# Altium footprint library UCDFR Passives.PcbLib: 35 footprints (part 2 of 3)
Each footprint in its own frame and in the unit in brackets; x right, y up, seen from the top. Pads: shape width x height; smd on the part's side, far side on the other; paste and mask are expansions set on the pad; w line width, h text height; cw(c..) or ccw(c..) is an arc to the next point about the centre after c.
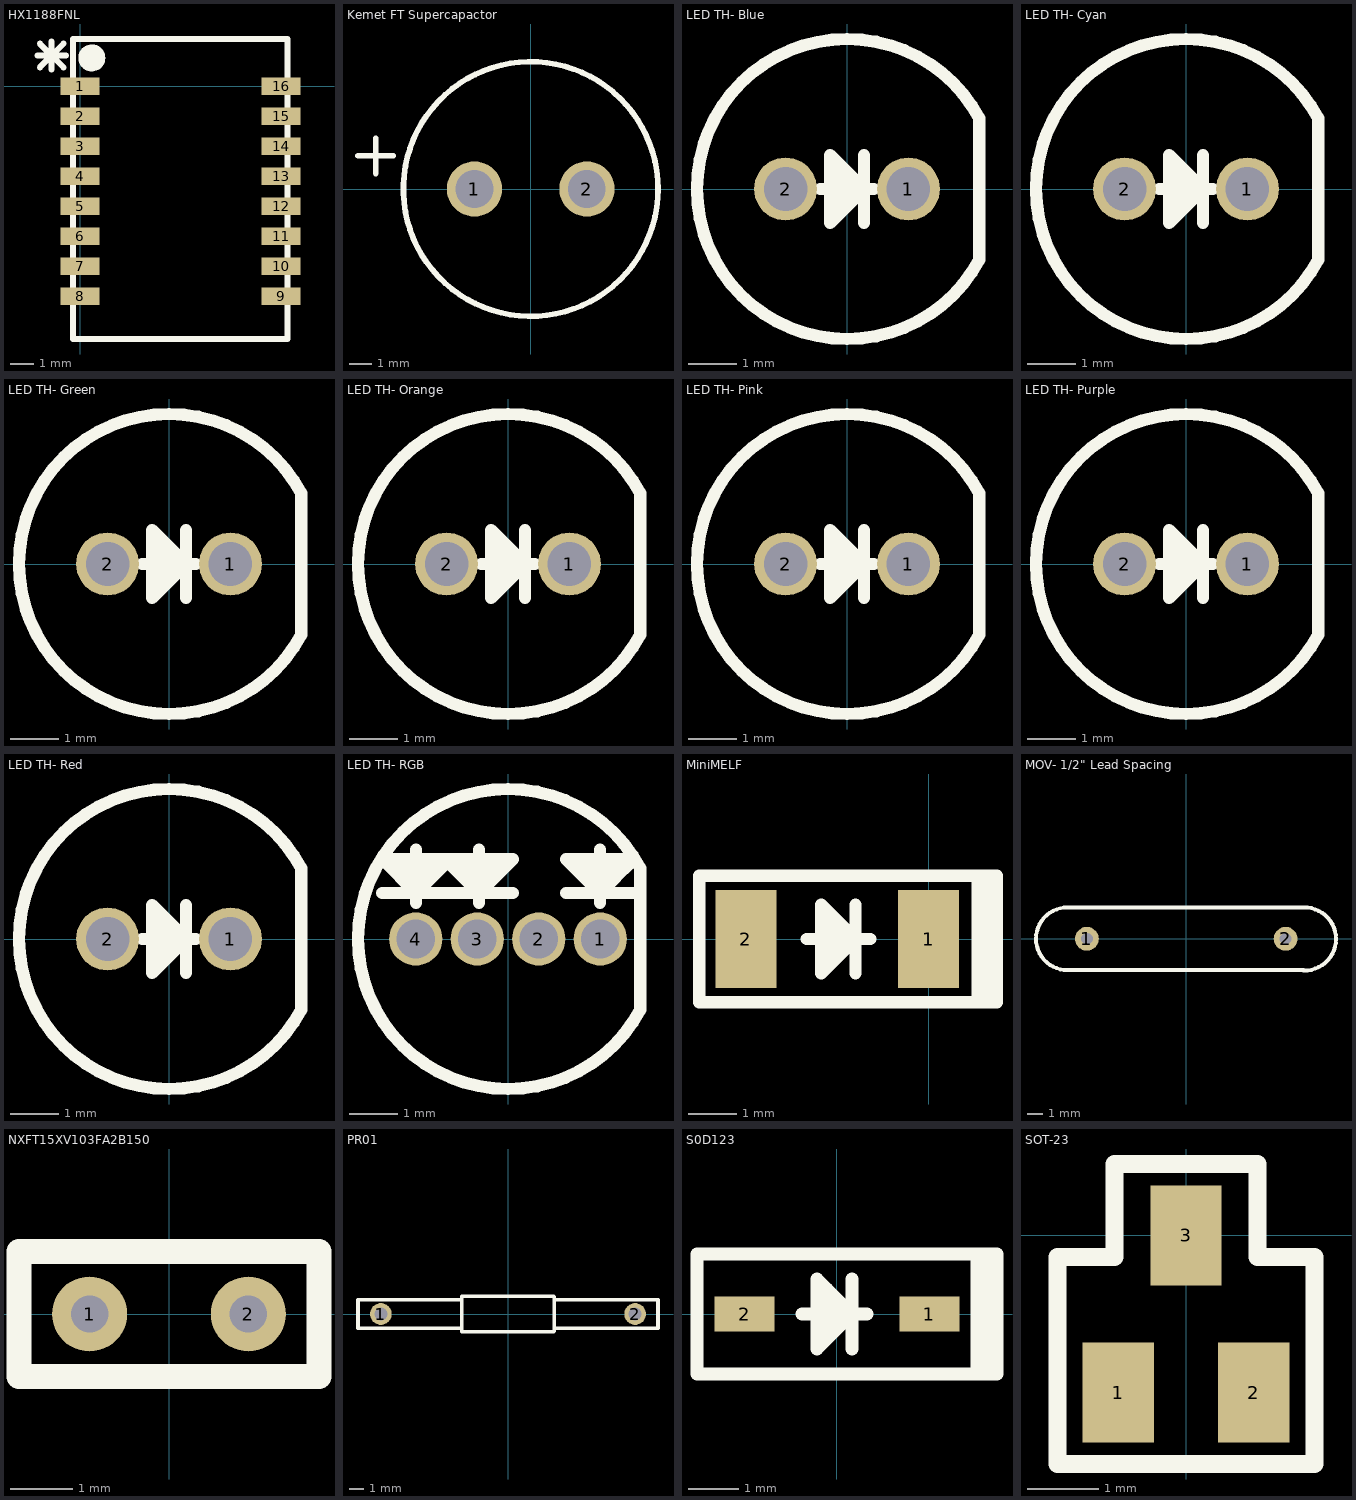
[diagram p1: the footprints below, top view; thin cyan lines are the x and y axes]

## HX1188FNL [mm] "Pulse Electronics, HX1188FNL, Dual Channel Transformer"
height 5.99
pads (16):
  rect 1.65x0.76 smd: 1(0,0) 2(0,-1.27) 3(0,-2.54) 4(0,-3.81) 5(0,-5.08) 6(0,-6.35) 7(0,-7.62) 8(0,-8.89) 9(8.51,-8.89) 10(8.51,-7.62) 11(8.51,-6.35) 12(8.51,-5.08) 13(8.51,-3.81) 14(8.51,-2.54) 15(8.51,-1.27) 16(8.51,0)
Top Overlay:
  circle w0.254: c0.5,1.2 r0.224
  circle w0.254: c0.5,1.2 r0.447
  lines w0.254: -1.8,1.3 -0.6,1.3 ; -1.7,0.8 -0.7,1.8 ; -1.7,1.8 -0.7,0.8 ; -1.2,0.7 -1.2,1.9 ; 0.3,1.2 0.724,1.2 ; -0.3,-10.7 -0.3,2 8.79,2 8.79,-10.7 -0.3,-10.7

## Kemet FT Supercapactor [mm]
pads (2):
  round 2.5 hole 1.7: 1(-2.54,0) 2(2.54,0)
Top Overlay:
  circle w0.254: c0,0 r5.75
  lines w0.254: -7.8,1.5 -6.2,1.5 ; -7,0.7 -7,2.3
3D body: height 8.5, standoff -3.51, extent -5.75,-5.75 5.75,5.75

## LED TH- Blue [mm]
pads (2):
  round 1.3 hole 0.9: 1(1.27,0) 2(-1.27,0)
Top Overlay:
  lines w0.254: -0.55,0 -0.15,0 -0.15,-0.3 ; 0.05,-0.1 0.05,0 -0.15,0.2 -0.15,0.5 -0.35,0.7 ; 0.35,-0.7 0.35,0.7 ; 0.55,0 0.35,0 ; -0.35,0.7 -0.35,-0.7 0.35,0 ; -0.35,0.7 0.35,0 ; 2.733,-1.464 cw(c0,0) 2.733,1.464 2.733,-1.464
3D body: height 13.1, standoff -7.5, extent -2.9,-3 2.5,2.8

## LED TH- Cyan [mm]
pads (2):
  round 1.3 hole 0.9: 1(1.27,0) 2(-1.27,0)
Top Overlay:
  lines w0.254: -0.55,0 -0.15,0 -0.15,-0.3 ; 0.05,-0.1 0.05,0 -0.15,0.2 -0.15,0.5 -0.35,0.7 ; 0.35,-0.7 0.35,0.7 ; 0.55,0 0.35,0 ; -0.35,0.7 0.35,0 ; -0.35,0.7 -0.35,-0.7 0.35,0 ; 2.733,-1.464 cw(c0,0) 2.733,1.464 2.733,-1.464
3D body: height 13.1, standoff -7.5, extent -2.9,-2.9 2.5,2.9

## LED TH- Green [mm]
pads (2):
  round 1.3 hole 0.9: 1(1.27,0) 2(-1.27,0)
Top Overlay:
  lines w0.254: -0.55,0 -0.15,0 -0.15,-0.3 ; 0.05,-0.1 0.05,0 -0.15,0.2 -0.15,0.5 -0.35,0.7 ; 0.35,-0.7 0.35,0.7 ; 0.55,0 0.35,0 ; -0.35,0.7 0.35,0 ; -0.35,0.7 -0.35,-0.7 0.35,0 ; 2.733,-1.464 cw(c0,0) 2.733,1.464 2.733,-1.464
3D body: height 13.1, standoff -7.5, extent -2.9,-2.9 2.5,2.9

## LED TH- Orange [mm]
pads (2):
  round 1.3 hole 0.9: 1(1.27,0) 2(-1.27,0)
Top Overlay:
  lines w0.254: -0.55,0 -0.15,0 -0.15,-0.3 ; 0.05,-0.1 0.05,0 -0.15,0.2 -0.15,0.5 -0.35,0.7 ; 0.35,-0.7 0.35,0.7 ; 0.55,0 0.35,0 ; -0.35,0.7 -0.35,-0.7 0.35,0 ; -0.35,0.7 0.35,0 ; 2.733,-1.464 cw(c0,0) 2.733,1.464 2.733,-1.464
3D body: height 13.1, standoff -7.5, extent -2.9,-2.9 2.5,2.9

## LED TH- Pink [mm]
pads (2):
  round 1.3 hole 0.9: 1(1.27,0) 2(-1.27,0)
Top Overlay:
  lines w0.254: -0.55,0 -0.15,0 -0.15,-0.3 ; 0.05,-0.1 0.05,0 -0.15,0.2 -0.15,0.5 -0.35,0.7 ; 0.35,-0.7 0.35,0.7 ; 0.55,0 0.35,0 ; -0.35,0.7 -0.35,-0.7 0.35,0 ; -0.35,0.7 0.35,0 ; 2.733,-1.464 cw(c0,0) 2.733,1.464 2.733,-1.464
3D body: height 13.1, standoff -7.5, extent -2.9,-2.9 2.5,2.9

## LED TH- Purple [mm]
pads (2):
  round 1.3 hole 0.9: 1(1.27,0) 2(-1.27,0)
Top Overlay:
  lines w0.254: -0.55,0 -0.15,0 -0.15,-0.3 ; 0.05,-0.1 0.05,0 -0.15,0.2 -0.15,0.5 -0.35,0.7 ; 0.35,-0.7 0.35,0.7 ; 0.55,0 0.35,0 ; -0.35,0.7 -0.35,-0.7 0.35,0 ; -0.35,0.7 0.35,0 ; 2.733,-1.464 cw(c0,0) 2.733,1.464 2.733,-1.464
3D body: height 13.1, standoff -7.5, extent -2.9,-2.9 2.5,2.9

## LED TH- Red [mm]
pads (2):
  round 1.3 hole 0.9: 1(1.27,0) 2(-1.27,0)
Top Overlay:
  lines w0.254: -0.55,0 -0.15,0 -0.15,-0.3 ; 0.05,-0.1 0.05,0 -0.15,0.2 -0.15,0.5 -0.35,0.7 ; 0.35,-0.7 0.35,0.7 ; 0.55,0 0.35,0 ; -0.35,0.7 0.35,0 ; -0.35,0.7 -0.35,-0.7 0.35,0 ; 2.733,-1.464 cw(c0,0) 2.733,1.464 2.733,-1.464
3D body: height 13.1, standoff -7.5, extent -2.9,-2.9 2.5,2.9

## LED TH- RGB [mm]
pads (4):
  round 1.1 hole 0.8: 1(1.905,0) 2(0.635,0) 3(-0.635,0) 4(-1.905,0)
Top Overlay:
  lines w0.254: -2.6,0.95 -1.2,0.95 ; -2.2,1.45 -1.9,1.45 -1.9,1.85 ; -2,1.25 -1.9,1.25 -1.7,1.45 -1.4,1.45 -1.2,1.65 ; -1.9,0.75 -1.9,0.95 ; -1.3,0.95 0.1,0.95 ; -0.9,1.45 -0.6,1.45 -0.6,1.85 ; -0.7,1.25 -0.6,1.25 -0.4,1.45 -0.1,1.45 0.1,1.65 ; -0.6,0.75 -0.6,0.95 ; 1.2,0.95 2.6,0.95 ; 1.6,1.45 1.9,1.45 1.9,1.85 ; 1.8,1.25 1.9,1.25 2.1,1.45 2.4,1.45 2.6,1.65 ; 1.9,0.75 1.9,0.95 ; -1.9,0.95 -2.6,1.65 -1.2,1.65 ; -1.9,0.95 -1.2,1.65 ; -0.6,0.95 -1.3,1.65 0.1,1.65 ; -0.6,0.95 0.1,1.65 ; 1.9,0.95 1.2,1.65 2.6,1.65 ; 1.9,0.95 2.6,1.65 ; 2.733,-1.464 cw(c0,0) 2.733,1.464 2.733,-1.464

## MiniMELF [mm] "DO-213AA"
pads (2):
  rect 1.25x2 smd: 1(0,0) 2(-3.75,0)
Top Overlay:
  lines w0.254: -2.5,0 -2.1,0 ; -2,-0.3 -2,0.2 ; -1.8,-0.1 -1.8,0 -2,0.2 ; -1.5,-0.7 -1.5,0.7 ; -1.2,0 -1.5,0 ; 1.2,-1.3 1.2,1.3 ; -2.2,0.7 -1.5,0 ; -2.2,0.7 -2.2,-0.7 -1.5,0 ; -2.2,0.7 -2,0.5 -2,0.2 ; 1,-1.3 1.4,-1.3 1.4,1.3 1,1.3 ; 1,-1.3 1,1.3 ; 1,-1.3 -4.7,-1.3 -4.7,1.3 1,1.3
3D body: height 1.5, standoff -0.1, extent -3.65,-0.8 0.05,0.72

## MOV- 1/2" Lead Spacing [mil]
pads (2):
  round 60 hole 30: 1(-250,0) 2(250,0)
Top Overlay:
  lines w10: 295.28,-79.92 ccw(c297.26,-0.59) 295.28,78.74 -297.25,78.64 ccw(c-299.21,0) -297.34,-78.64 295.28,-78.64

## NXFT15XV103FA2B150 [mm] "Murata, NTC Through Hole Thermistor"
pads (2):
  round 1.2 hole 0.6: 1(-1.27,0) 2(1.27,0)
Top Overlay:
  lines w0.406: -2.4,-1 -2.4,1 2.4,1 2.4,-1 -2.4,-1

## PR01 [mm] "Vishay PR01 Power Resistor"
pads (2):
  round 1.524 hole 0.9: 1(-8.9,0) 2(8.9,0)
Top Overlay:
  lines w0.254: -3.3,-1 -10.5,-1 -10.5,1 -3.3,1 ; -3.25,-1.25 3.2,-1.25 ; -3.25,-1.2 -3.25,1.25 3.2,1.25 ; 3.25,-1.2 3.25,1.2 ; 3.3,-1 10.5,-1 10.5,1 3.4,1
3D body: height 3.75, standoff -1.88, extent -9.256,-1.25 9.256,1.25

## S0D123 [mm] "SOD123 Package"
height 1.75
pads (2):
  rect 1.2x0.7 smd: 1(1.85,0) 2(-1.85,0)
Top Overlay:
  lines w0.254: -0.7,0 -0.2,0 -0.2,-0.3 ; 0,-0.1 0,0 -0.2,0.2 -0.2,0.5 -0.4,0.7 ; 0.3,-0.7 0.3,0.7 ; 0.6,0 0.3,0 ; -0.4,0.7 0.3,0 ; -0.4,0.7 -0.4,-0.7 0.3,0 ; 2.8,-1.2 3.2,-1.2 3.2,1.2 3,1.2 ; 2.8,-1.2 3,-1.2 3,1.2 ; 2.8,-1.2 -2.8,-1.2 -2.8,1.2 2.8,1.2 ; 2.8,-1.2 2.8,1.2 ; 2.8,1.2 3,1.2
3D body: height 1.18, standoff 0, extent -1.95,-0.9 1.95,0.9

## SOT-23 [mm]
pads (3):
  rect 1x1.4 smd: 1(-0.95,-2.2) 2(0.95,-2.2) 3(0,0)
Top Overlay:
  lines w0.254: -1.8,-3.2 -1.8,-0.3 -1,-0.3 -1,1 0,1 1,1 1,-0.3 1.8,-0.3 1.8,-3.2 -1.8,-3.2
3D body: height 1.09, standoff 0, extent -1.5,-2.45 1.5,0.05